# EAGLE library part 722-841 (library con-wago_7.5mm)
Serie 722, Federleiste mit abgewinkelten Einlötstiften / Series 722, Female connector with angled solder pins Polzahl / Pole No.: 11 Rastermaß / Pitch: 7.5 mm Bemessungsspannung / Rated Voltage: 630 V Nennstrom / Nominal Current: 12 A Lötstiftlänge: / Solder Pin Length: 5 mm Farbe / Color: lichtgrau / light gray Stand: 01.01.2012. Die jeweils aktuellen Daten zu diesem Artikel finden Sie in unserem Produktkatalog, den Sie unter www.wago.com einsehen können. As of: 01/01/2012. Please find the newest data for this article in our product catalogue, which can be viewed under www.wago.com.
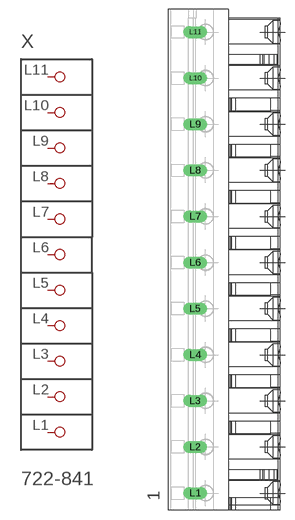
[diagram p45: symbol with the pads of P-722-841; footprint P-722-841]

Designator prefix X

## 722-841  [P-722-841]
L1  P1
L2  P2
L3  P3
L4  P4
L5  P5
L6  P6
L7  P7
L8  P8
L9  P9
L10  P10
L11  P11

## Footprint P-722-841 (pad centres in mm)
drill 1.3 long: L1 -5.15,-37.95; L2 -5.15,-30.45; L3 -5.15,-22.95; L4 -5.15,-15.45; L5 -5.15,-7.95; L6 -5.15,-0.45; L7 -5.15,7.05; L8 -5.15,14.55; L9 -5.15,22.05; L10 -5.15,29.55; L11 -5.15,37.05